# EAGLE library part 618015325323 (library Wuerth_Elektronik_eiCan_D-SUB_Connectors)
WR-DSUB Male High Density Angled PCB Connector without Hex Screw, 15 Pins
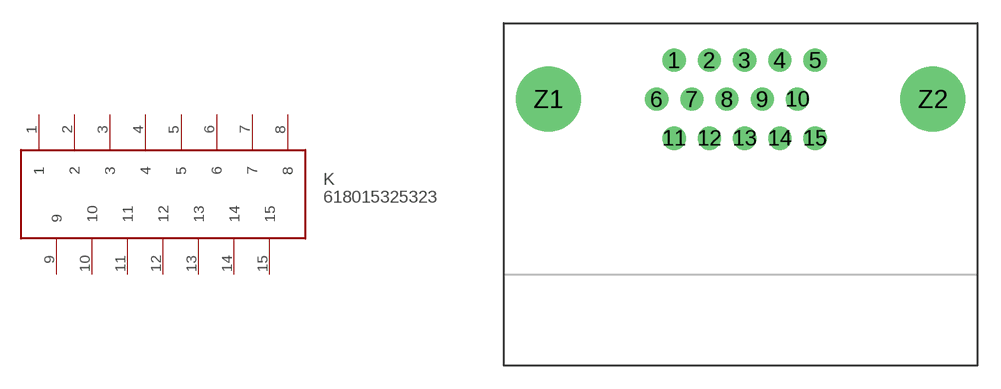
[diagram p52: symbol with the pads of 618015325323; footprint 618015325323]

Designator prefix K

## 618015325323  [618015325323]
1  1
2  2
3  3
4  4
5  5
6  6
7  7
8  8
9  9
10  10
11  11
12  12
13  13
14  14
15  15

## Footprint 618015325323 (pad centres in mm)
WR-DSUB Male High Density Angled PCB Connector without Hex Screw, 15 Pins
drill 1 round: 1 -4.32,2.54; 2 -2.03,2.54; 3 0.26,2.54; 4 2.55,2.54; 5 4.84,2.54; 6 -5.465,0; 7 -3.175,0; 8 -0.885,0; 9 1.405,0; 10 3.695,0; 11 -4.32,-2.54; 12 -2.03,-2.54; 13 0.26,-2.54; 14 2.55,-2.54; 15 4.84,-2.54
drill 3.2 round: Z1 -12.5,0; Z2 12.5,0